# Altium footprint library USB_MINI_FEMALE.PcbLib: 1 footprints
Each footprint in its own frame and in the unit in brackets; x right, y up, seen from the top. Pads: shape width x height; smd on the part's side, far side on the other; paste and mask are expansions set on the pad; w line width, h text height; cw(c..) or ccw(c..) is an arc to the next point about the centre after c.
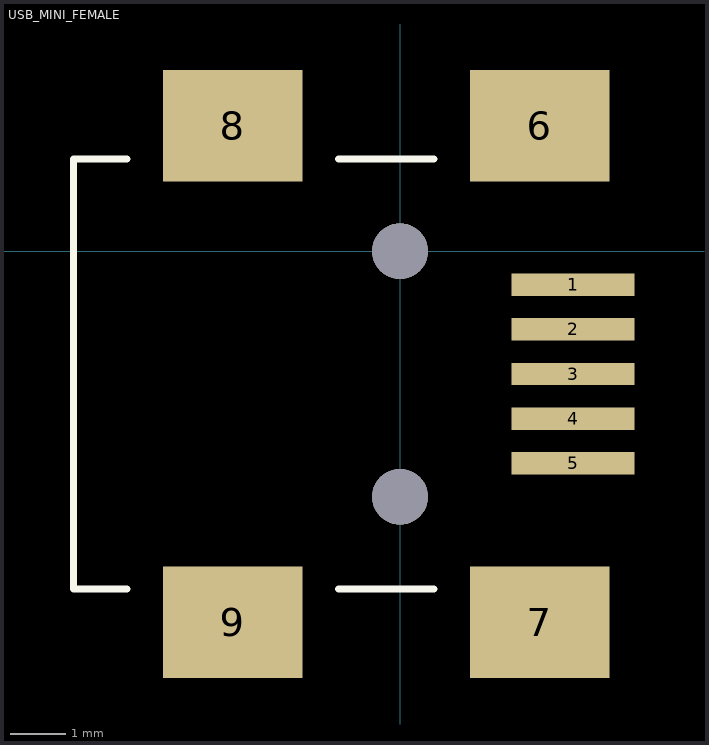
[diagram p0: the footprint, top view; thin cyan lines are the x and y axes]

## USB_MINI_FEMALE [mm]
pads (11):
  rect 2.2x0.4 smd: 1(3.1,-0.6) 2(3.1,-1.4) 3(3.1,-2.2) 4(3.1,-3) 5(3.1,-3.8)
  rect 2.5x2 smd: 6(2.5,2.25) 7(2.5,-6.65) 8(-3,2.25) 9(-3,-6.65)
  round 1 hole 1 unplated: ""(0,-4.4) ""(0,0)
Top Overlay:
  lines w0.127: -4.895,-6.05 -5.85,-6.05 -5.85,1.65 -4.895,1.65 ; -1.105,-6.05 0.605,-6.05 ; -1.105,1.65 0.605,1.65
3D body "usb_a-usb_b-m5-smd-c.stp": height 3.93, standoff -1, extent -5.916,-7.039 3.334,2.861